# EAGLE library part FE06-1 (library con-lsta)
FEMALE HEADER
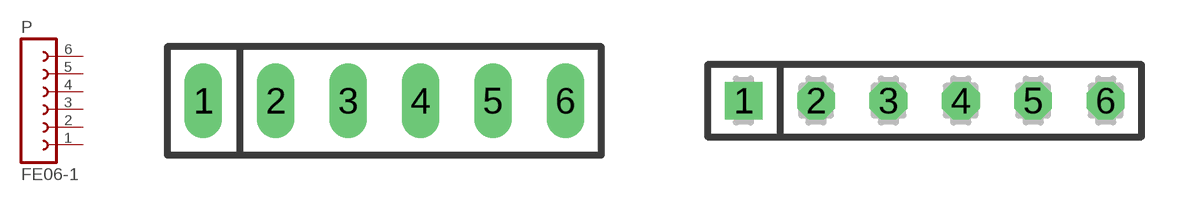
[diagram p20: symbol with the pads of FE06-1Y; footprints FE06-1Y, FE06-1]

Designator prefix P

## FE06-1Y  [FE06-1Y]
1  1  pas
2  2  pas
3  3  pas
4  4  pas
5  5  pas
6  6  pas

## FE06-1  [FE06-1]
Pads as for FE06-1Y

## Footprint FE06-1Y (pad centres in mm)
FEMALE HEADER
drill 0.813 long: 1 -6.35,0; 2 -3.81,0; 3 -1.27,0; 4 1.27,0; 5 3.81,0; 6 6.35,0

## Footprint FE06-1 (pad centres in mm)
drill 0.813 square: 1 -6.35,0
drill 0.813 octagon: 2 -3.81,0; 3 -1.27,0; 4 1.27,0; 5 3.81,0; 6 6.35,0